# Altium schematic symbol library TS2937.Schlib: 1 symbol
Pins are listed as number, name and electrical type; pins without a type are passive.

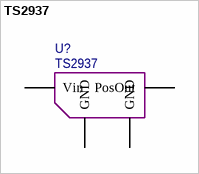
[diagram p0: symbol TS2937]

## TS2937
designator U?
pins: 1 Vin, 2 GND, 3 PosOut, 4 GND